# Altium footprint library B3QFN_RDA.PcbLib: 1 footprints
Each footprint in its own frame and in the unit in brackets; x right, y up, seen from the top. Pads: shape width x height; smd on the part's side, far side on the other; paste and mask are expansions set on the pad; w line width, h text height; cw(c..) or ccw(c..) is an arc to the next point about the centre after c.
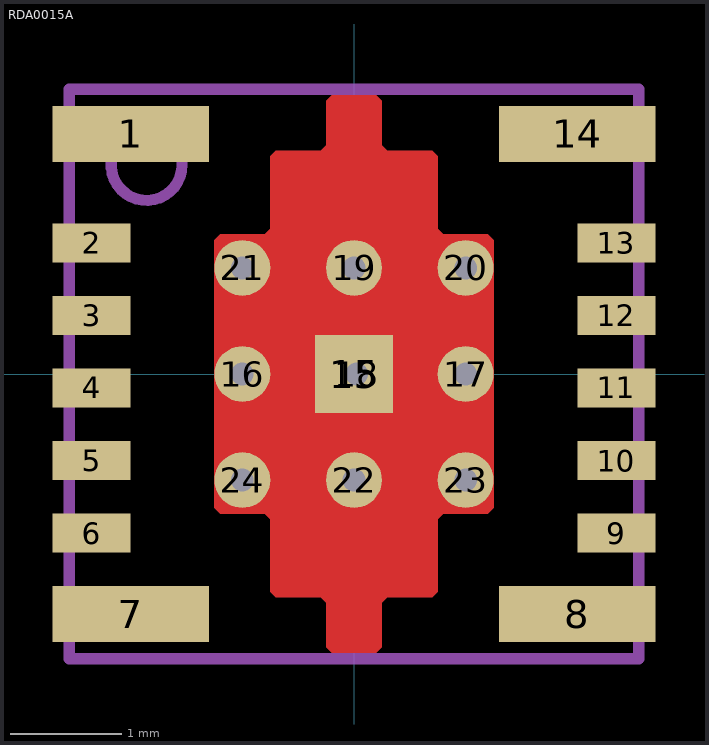
[diagram p0: the footprint, top view; thin cyan lines are the x and y axes]

## RDA0015A [mm]
pads (24):
  rect 1.4x0.5 smd paste+0 mask+0: 1(-2,2.15) 7(-2,-2.15) 8(2,-2.15) 14(2,2.15)
  rect 0.7x0.35 smd paste+0 mask+0: 2(-2.35,1.175) 3(-2.35,0.525) 4(-2.35,-0.125) 5(-2.35,-0.775) 6(-2.35,-1.425) 9(2.35,-1.425) 10(2.35,-0.775) 11(2.35,-0.125) 12(2.35,0.525) 13(2.35,1.175)
  rect 0.7x0.7 smd paste-0.337 mask+0: 15(0,0)
  round 0.5 hole 0.203 mask+0: 16(-1,0) 17(1,0) 18(0.025,0) 19(0,0.95) 20(1,0.95) 21(-1,0.95) 22(0,-0.95) 23(1,-0.95) 24(-1,-0.95)
Top Layer:
  region: -1.25,-1.2 -1.2,-1.25 -0.8,-1.25 -0.75,-1.3 -0.75,-1.95 -0.7,-2 -0.3,-2 -0.25,-2.05 -0.25,-2.449 -0.2,-2.499 0.2,-2.499 0.25,-2.449 0.25,-2.05 0.3,-2 0.7,-2 0.75,-1.95 0.75,-1.3 0.8,-1.25 1.2,-1.25 1.25,-1.2 1.25,1.2 1.2,1.25 0.8,1.25 0.75,1.3 0.75,1.95 0.7,2 0.3,2 0.25,2.05 0.25,2.449 0.2,2.499 -0.2,2.499 -0.25,2.449 -0.25,2.05 -0.3,2 -0.7,2 -0.75,1.95 -0.75,1.3 -0.8,1.25 -1.2,1.25 -1.25,1.2
Top Paste:
  region: -0.2,-2.5 -0.25,-2.45 -0.25,-2.05 -0.2,-2 0.2,-2 0.25,-2.05 0.25,-2.45 0.2,-2.5
  region: -0.75,-1.1 -0.75,-1.8 -0.7,-1.85 0.7,-1.85 0.75,-1.8 0.75,-1.1 0.7,-1.05 -0.7,-1.05
  region: -1.25,-0.15 -1.25,-0.8 -1.2,-0.85 1.2,-0.85 1.25,-0.8 1.25,-0.15 1.2,-0.1 -1.2,-0.1
  region: -1.25,0.8 -1.25,0.15 -1.2,0.1 1.2,0.1 1.25,0.15 1.25,0.8 1.2,0.85 -1.2,0.85
  region: -0.75,1.8 -0.75,1.1 -0.7,1.05 0.7,1.05 0.75,1.1 0.75,1.8 0.7,1.85 -0.7,1.85
  region: -0.2,2 -0.25,2.05 -0.25,2.45 -0.2,2.5 0.2,2.5 0.25,2.45 0.25,2.05 0.2,2
Top Solder:
  region: -0.8,-1.25 -1.2,-1.25 -1.25,-1.2 -1.25,1.2 -1.2,1.25 -0.8,1.25 -0.75,1.3 -0.75,1.95 -0.7,2 -0.3,2 -0.25,2.05 -0.25,2.449 -0.2,2.499 0.2,2.499 0.25,2.449 0.25,2.05 0.3,2 0.7,2 0.75,1.95 0.75,1.3 0.8,1.25 1.2,1.25 1.25,1.2 1.25,-1.2 1.2,-1.25 0.8,-1.25 0.75,-1.3 0.75,-1.95 0.7,-2 0.3,-2 0.25,-2.05 0.25,-2.449 0.2,-2.499 -0.2,-2.499 -0.25,-2.449 -0.25,-2.05 -0.3,-2 -0.7,-2 -0.75,-1.95 -0.75,-1.3
Mechanical 13:
  circle w0.1: c-1.858,1.872 r0.318
  lines w0.1: -2.55,-2.55 2.55,-2.55 2.55,2.55 -2.55,2.55 -2.55,-2.55
  text ".Designator" at -1.2,-0.935 h1.27
3D body "B3QFN_RDA15A.stp": height 4.1, standoff 0, extent -2.5,-2.75 2.5,2.75